# Altium schematic symbol library Coilcraft 1812WBT-3.SchLib: 1 symbol
Pins are listed as number, name and electrical type; pins without a type are passive.

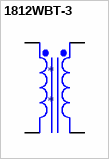
[diagram p0: symbol 1812WBT-3]

## 1812WBT-3
designator *
pins: 1 Pri+, 2 Pri-, 3 Sec-, 4 Sec+